# EAGLE library part STANDARD_MODULE (library jennic)
JN5139 standard module connection. Please note, that in this module Vss and GND pins are separate.
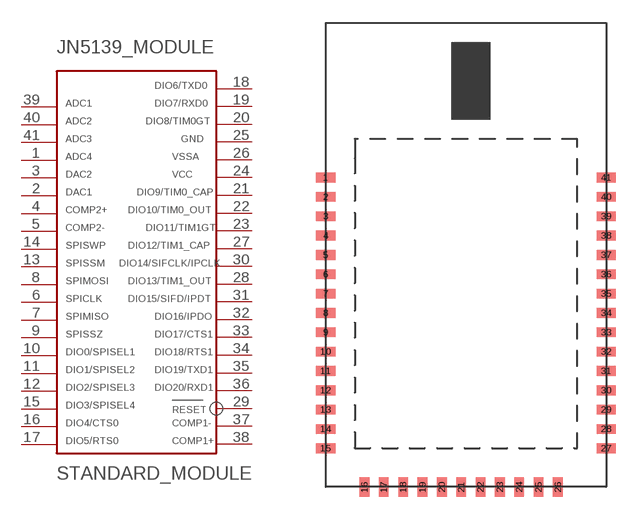
[diagram p0: symbol with the pads of JN5139_STANDARD_MODULE; footprint JN5139_STANDARD_MODULE]

Designator prefix JN5139_MODULE

## STANDARD_MODULEPCB_MODULE (PCB_MODULE: 18x30mm)  [JN5139_STANDARD_MODULE]
1  P$4  in
2  P$6  out
3  P$5  out
4  P$7  in
5  P$8  in
6  P$12
7  P$13
8  P$11
9  P$14  out
10  P$15
11  P$16
12  P$17
13  P$10  in
14  P$9  in
15  P$18
16  P$19
17  P$20
18  P$21
19  P$22
20  P$23
21  P$26
22  P$27
23  P$28
24  P$25  pwr
25  P$24  pwr
26  P$41  pwr
27  P$29
28  P$31
29  P$38  in
30  P$30
31  P$33
32  P$32
33  P$34
34  P$35
35  P$36
36  P$37
37  P$39  in
38  P$40  in
39  P$1  in
40  P$2  in
41  P$3  in

## Footprint JN5139_STANDARD_MODULE (pad centres in mm)
Standard JN_5139 module
smd 1.27 x 0.635: 1 0,20.32; 2 0,19.05; 3 0,17.78; 4 0,16.51; 5 0,15.24; 6 0,13.97; 7 0,12.7; 8 0,11.43; 9 0,10.16; 10 0,8.89; 11 0,7.62; 12 0,6.35; 13 0,5.08; 14 0,3.81; 15 0,2.54; 27 18.415,2.54; 28 18.415,3.81; 29 18.415,5.08; 30 18.415,6.35; 31 18.415,7.62; 32 18.415,8.89; 33 18.415,10.16; 34 18.415,11.43; 35 18.415,12.7; 36 18.415,13.97; 37 18.415,15.24; 38 18.415,16.51; 39 18.415,17.78; 40 18.415,19.05; 41 18.415,20.32
smd 0.635 x 1.27: 16 2.54,0; 17 3.81,0; 18 5.08,0; 19 6.35,0; 20 7.62,0; 21 8.89,0; 22 10.16,0; 23 11.43,0; 24 12.7,0; 25 13.97,0; 26 15.24,0